# Altium footprint library battery connector (2P).PcbLib: 1 footprints
Each footprint in its own frame and in the unit in brackets; x right, y up, seen from the top. Pads: shape width x height; smd on the part's side, far side on the other; paste and mask are expansions set on the pad; w line width, h text height; cw(c..) or ccw(c..) is an arc to the next point about the centre after c.
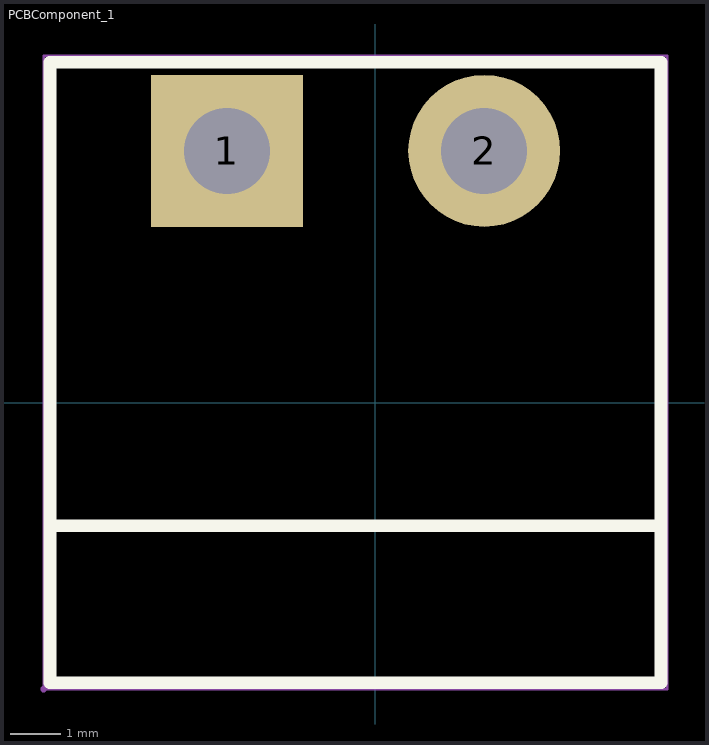
[diagram p0: the footprint, top view; thin cyan lines are the x and y axes]

## PCBComponent_1 [mm]
pads (2):
  rect 3x3 hole 1.7 paste-2539.97 mask+0.051: 1(-2.927,4.972)
  round 3 hole 1.7 paste-2539.97 mask+0.051: 2(2.153,4.972)
Top Overlay:
  lines w0.254: -6.417,-2.428 5.643,-2.428 ; -6.417,6.672 -6.417,-5.528 5.643,-5.528 5.643,6.672 ; -6.417,6.722 5.643,6.722
Mechanical 15:
  region: -6.484,-5.655 -6.484,-5.63 -6.519,-5.595 -6.569,-5.595 -6.604,-5.63 -6.604,-5.655 -6.604,-5.68 -6.569,-5.715 -6.519,-5.715 -6.484,-5.68 -6.484,-5.655
  region: 2.903,4.972 2.902,5.07 2.849,5.259 2.75,5.428 2.611,5.566 2.441,5.663 2.251,5.713 2.055,5.713 1.866,5.663 1.696,5.566 1.556,5.428 1.457,5.259 1.404,5.07 1.403,4.972 1.404,4.874 1.457,4.685 1.556,4.516 1.695,4.378 1.866,4.281 2.055,4.231 2.251,4.231 2.44,4.281 2.611,4.378 2.75,4.516 2.849,4.685 2.902,4.874 2.903,4.972
  region: -2.177,4.972 -2.178,5.07 -2.231,5.259 -2.33,5.428 -2.469,5.566 -2.639,5.663 -2.829,5.713 -3.025,5.713 -3.214,5.663 -3.384,5.566 -3.524,5.428 -3.623,5.259 -3.676,5.07 -3.677,4.972 -3.676,4.874 -3.623,4.685 -3.524,4.516 -3.385,4.378 -3.214,4.281 -3.025,4.231 -2.829,4.231 -2.64,4.281 -2.469,4.378 -2.33,4.516 -2.231,4.685 -2.178,4.874 -2.177,4.972
  lines w0.051: -6.544,-5.655 -6.544,6.849 5.77,6.849 5.77,-5.655 -6.544,-5.655